# EAGLE library part SSD9616 (library display-lcd)
DENSITRON OLED DISPLAY MODULE
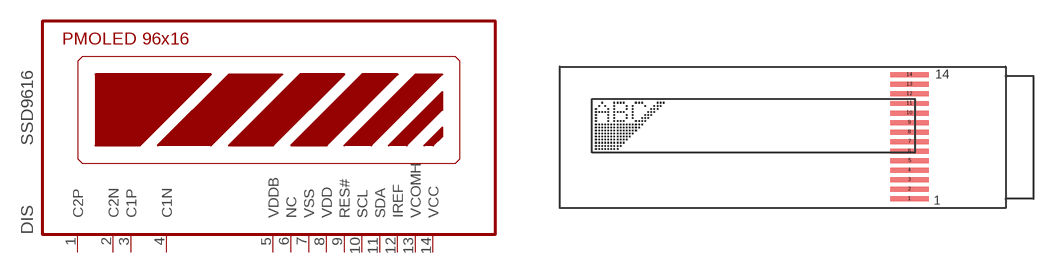
[diagram p10: symbol with the pads of SSD9616; footprint SSD9616]

Designator prefix DIS

## SSD9616  [SSD9616]
1  C2P  in
2  C2N  in
3  C1P  in
4  C1N  in
5  VDDB  pwr
6  NC  nc
7  VSS  pwr
8  VDD  pwr
9  RES#  in
10  SCL  in
11  SDA
12  IREF  in
13  VCOMH  out
14  VCC  pwr

## Footprint SSD9616 (pad centres in mm)
PMOLED DISPLAY 96x16 pixel matrix
smd 2.5 x 0.32: 1 9.35,-4.6; 2 9.35,-3.98; 3 9.35,-3.36; 4 9.35,-2.74; 5 9.35,-2.12; 6 9.35,-1.5; 7 9.35,-0.88; 8 9.35,-0.26; 9 9.35,0.36; 10 9.35,0.98; 11 9.35,1.6; 12 9.35,2.22; 13 9.35,2.84; 14 9.35,3.46